# EAGLE library part STM32F205XX (library Nwazet.Go)
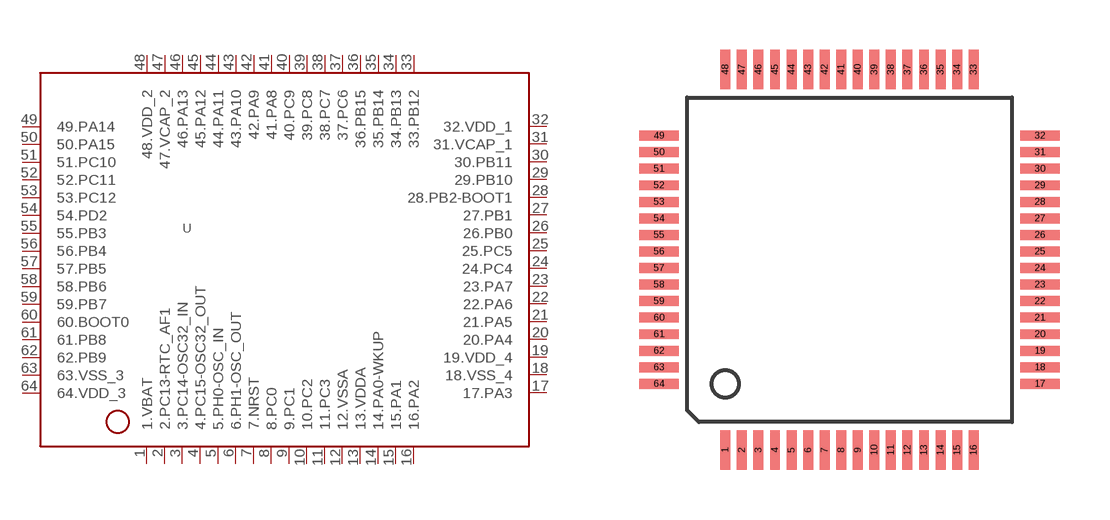
[diagram p3: symbol with the pads of STM32F205XX_LQFP64; footprint STM32F205XX_LQFP64]

Designator prefix -

## STM32F205XXCORTEXM3RET  [STM32F205XX_LQFP64]
1  1.VBAT  sup
2  2.PC13-RTC_AF1
3  3.PC14-OSC32_IN
4  4.PC15-OSC32_OUT
5  5.PH0-OSC_IN
6  6.PH1-OSC_OUT
7  7.NRST
8  8.PC0
9  9.PC1
10  10.PC2
11  11.PC3
12  12.VSSA  pas
13  13.VDDA  sup
14  14.PA0-WKUP
15  15.PA1
16  16.PA2
17  17.PA3
18  18.VSS_4  pas
19  19.VDD_4  sup
20  20.PA4
21  21.PA5
22  22.PA6
23  23.PA7
24  24.PC4
25  25.PC5
26  26.PB0
27  27.PB1
28  28.PB2-BOOT1
29  29.PB10
30  30.PB11
31  31.VCAP_1  pas
32  32.VDD_1  sup
33  33.PB12
34  34.PB13
35  35.PB14
36  36.PB15
37  37.PC6
38  38.PC7
39  39.PC8
40  40.PC9
41  41.PA8
42  42.PA9
43  43.PA10
44  44.PA11
45  45.PA12
46  46.PA13
47  47.VCAP_2  pas
48  48.VDD_2  sup
49  49.PA14
50  50.PA15
51  51.PC10
52  52.PC11
53  53.PC12
54  54.PD2
55  55.PB3
56  56.PB4
57  57.PB5
58  58.PB6
59  59.PB7
60  60.BOOT0
61  61.PB8
62  62.PB9
63  63.VSS_3  pas
64  64.VDD_3  sup

## Footprint STM32F205XX_LQFP64 (pad centres in mm)
smd 0.3 x 1.2: 1 -3.75,-5.75; 2 -3.25,-5.75; 3 -2.75,-5.75; 4 -2.25,-5.75; 5 -1.75,-5.75; 6 -1.25,-5.75; 7 -0.75,-5.75; 8 -0.25,-5.75; 9 0.25,-5.75; 10 0.75,-5.75; 11 1.25,-5.75; 12 1.75,-5.75; 13 2.25,-5.75; 14 2.75,-5.75; 15 3.25,-5.75; 16 3.75,-5.75; 33 3.75,5.75; 34 3.25,5.75; 35 2.75,5.75; 36 2.25,5.75; 37 1.75,5.75; 38 1.25,5.75; 39 0.75,5.75; 40 0.25,5.75; 41 -0.25,5.75; 42 -0.75,5.75; 43 -1.25,5.75; 44 -1.75,5.75; 45 -2.25,5.75; 46 -2.75,5.75; 47 -3.25,5.75; 48 -3.75,5.75
smd 1.2 x 0.3: 17 5.75,-3.75; 18 5.75,-3.25; 19 5.75,-2.75; 20 5.75,-2.25; 21 5.75,-1.75; 22 5.75,-1.25; 23 5.75,-0.75; 24 5.75,-0.25; 25 5.75,0.25; 26 5.75,0.75; 27 5.75,1.25; 28 5.75,1.75; 29 5.75,2.25; 30 5.75,2.75; 31 5.75,3.25; 32 5.75,3.75; 49 -5.75,3.75; 50 -5.75,3.25; 51 -5.75,2.75; 52 -5.75,2.25; 53 -5.75,1.75; 54 -5.75,1.25; 55 -5.75,0.75; 56 -5.75,0.25; 57 -5.75,-0.25; 58 -5.75,-0.75; 59 -5.75,-1.25; 60 -5.75,-1.75; 61 -5.75,-2.25; 62 -5.75,-2.75; 63 -5.75,-3.25; 64 -5.75,-3.75